# EAGLE library part RM300-42J5K2G (library 180118 Library by matsu)
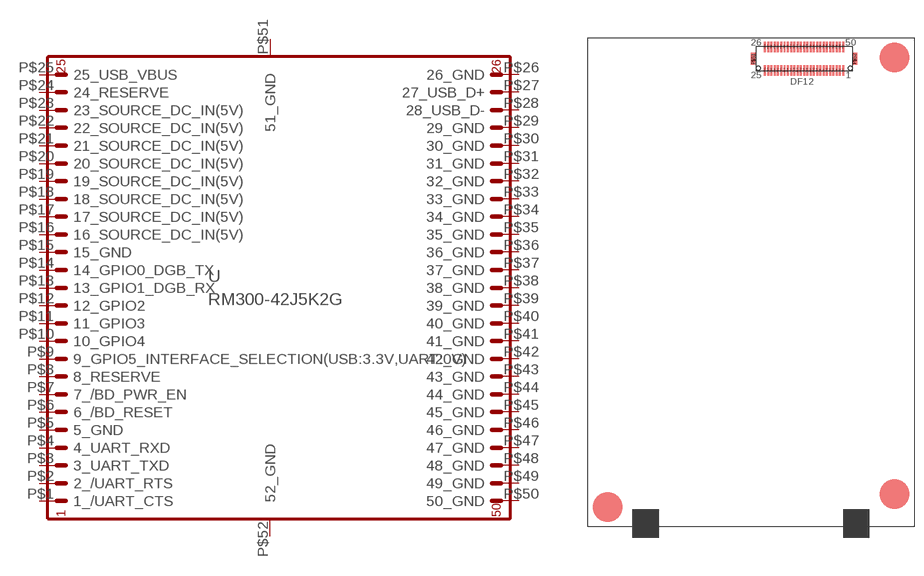
[diagram p38: symbol with the pads of RM300-42J5K2G; footprint RM300-42J5K2G]

Designator prefix -

## RM300-42J5K2G  [RM300-42J5K2G]
P$1  1_/UART_CTS
P$2  2_/UART_RTS
P$3  3_UART_TXD
P$4  4_UART_RXD
P$5  5_GND
P$6  6_/BD_RESET
P$7  7_/BD_PWR_EN
P$8  8_RESERVE
P$9  9_GPIO5_INTERFACE_SELECTION(USB:3.3V,UART:0V)
P$10  10_GPIO4
P$11  11_GPIO3
P$12  12_GPIO2
P$13  13_GPIO1_DGB_RX
P$14  14_GPIO0_DGB_TX
P$15  15_GND
P$16  16_SOURCE_DC_IN(5V)
P$17  17_SOURCE_DC_IN(5V)
P$18  18_SOURCE_DC_IN(5V)
P$19  19_SOURCE_DC_IN(5V)
P$20  20_SOURCE_DC_IN(5V)
P$21  21_SOURCE_DC_IN(5V)
P$22  22_SOURCE_DC_IN(5V)
P$23  23_SOURCE_DC_IN(5V)
P$24  24_RESERVE
P$25  25_USB_VBUS
P$26  26_GND
P$27  27_USB_D+
P$28  28_USB_D-
P$29  29_GND
P$30  30_GND
P$31  31_GND
P$32  32_GND
P$33  33_GND
P$34  34_GND
P$35  35_GND
P$36  36_GND
P$37  37_GND
P$38  38_GND
P$39  39_GND
P$40  40_GND
P$41  41_GND
P$42  42_GND
P$43  43_GND
P$44  44_GND
P$45  45_GND
P$46  46_GND
P$47  47_GND
P$48  48_GND
P$49  49_GND
P$50  50_GND
P$51  51_GND  pwr
P$52  52_GND  pwr

## Footprint RM300-42J5K2G (pad centres in mm)
smd 0.3 x 1.6: P$1 6,-1.8; P$2 5.5,-1.8; P$3 5,-1.8; P$4 4.5,-1.8; P$5 4,-1.8; P$6 3.5,-1.8; P$7 3,-1.8; P$8 2.5,-1.8; P$9 2,-1.8; P$10 1.5,-1.8; P$11 1,-1.8; P$12 0.5,-1.8; P$13 0,-1.8; P$14 -0.5,-1.8; P$15 -1,-1.8; P$16 -1.5,-1.8; P$17 -2,-1.8; P$18 -2.5,-1.8; P$19 -3,-1.8; P$20 -3.5,-1.8; P$21 -4,-1.8; P$22 -4.5,-1.8; P$23 -5,-1.8; P$24 -5.5,-1.8; P$25 -6,-1.8; P$26 -6,1.8; P$27 -5.5,1.8; P$28 -5,1.8; P$29 -4.5,1.8; P$30 -4,1.8; P$31 -3.5,1.8; P$32 -3,1.8; P$33 -2.5,1.8; P$34 -2,1.8; P$35 -1.5,1.8; P$36 -1,1.8; P$37 -0.5,1.8; P$38 0,1.8; P$39 0.5,1.8; P$40 1,1.8; P$41 1.5,1.8; P$42 2,1.8; P$43 2.5,1.8; P$44 3,1.8; P$45 3.5,1.8; P$46 4,1.8; P$47 4.5,1.8; P$48 5,1.8; P$49 5.5,1.8; P$50 6,1.8
smd 0.8 x 1.8: P$51 -7.75,0; P$52 7.75,0
hole 0.6 at -7.05,-1.5
hole 0.6 at 7.05,-1.5